# Altium footprint library LCD.PcbLib: 6 footprints
Each footprint in its own frame and in the unit in brackets; x right, y up, seen from the top. Pads: shape width x height; smd on the part's side, far side on the other; paste and mask are expansions set on the pad; w line width, h text height; cw(c..) or ccw(c..) is an arc to the next point about the centre after c.
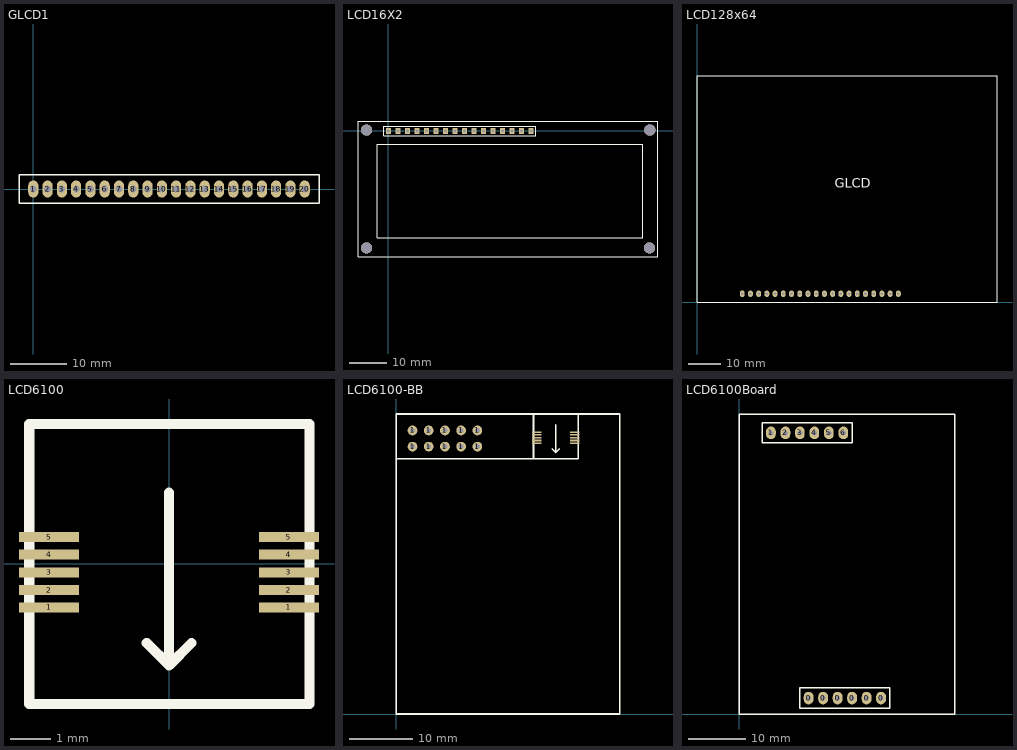
[diagram p0: the footprints below, top view; thin cyan lines are the x and y axes]

## GLCD1 [mm]
pads (20):
  oval 1.8x3 hole 1.2: 1(0,0) 2(2.54,0) 3(5.08,0) 4(7.62,0) 5(10.16,0) 6(12.7,0) 7(15.24,0) 8(17.78,0) 9(20.32,0) 10(22.86,0) 11(25.4,0) 12(27.94,0) 13(30.48,0) 14(33.02,0) 15(35.56,0) 16(38.1,0) 17(40.64,0) 18(43.18,0) 19(45.72,0) 20(48.26,0)
Top Overlay:
  lines w0.254: -2.54,-2.54 -2.54,2.54 50.8,2.54 50.8,-2.54 -2.54,-2.54

## LCD16X2 [mm] "LCD 16x2"
pads (20):
  rect 1.3x1.6 hole 0.9: 1(0,0) 2(2.54,0) 3(5.08,0) 4(7.62,0) 5(10.16,0) 6(12.7,0) 7(15.24,0) 8(17.78,0) 9(20.32,0) 10(22.86,0) 11(25.4,0) 12(27.94,0) 13(30.48,0) 14(33.02,0) 15(35.56,0) 16(38.1,0)
  round 3 hole 3: ""(-5.842,-31.242) ""(69.723,-31.242)
  round 3 hole 3 paste+0 mask+0: ""(-5.842,0.254) ""(69.825,0.254)
Top Overlay:
  lines w0.2: -1.27,-1.27 -1.27,1.27 0.635,1.27 39.37,1.27 39.37,-1.27 -1.27,-1.27
  lines w0.254: 71.882,-33.528 -8.128,-33.528 -8.128,2.54 71.882,2.54 ; 72.009,-33.528 72.009,2.54 ; -3.001,-28.528 67.999,-28.528 67.999,-3.528 -3.001,-3.528 -3.001,-28.528
3D body: height 19, standoff 5.1, extent -8,-33.5 72,2.5
3D body: height 7, standoff -1, extent 37.694,-0.406 38.49,0.392
3D body: height 1.5, standoff 0, extent 36.83,-1.27 39.37,1.27
3D body: height 7, standoff -1, extent 24.994,-0.406 25.79,0.392
3D body: height 1.5, standoff 0, extent 24.13,-1.27 26.67,1.27
3D body: height 7, standoff -1, extent 27.534,-0.406 28.33,0.392
3D body: height 1.5, standoff 0, extent 26.67,-1.27 29.21,1.27
3D body: height 7, standoff -1, extent 30.074,-0.406 30.87,0.392
3D body: height 1.5, standoff 0, extent 29.21,-1.27 31.75,1.27
3D body: height 7, standoff -1, extent 32.614,-0.406 33.41,0.392
3D body: height 1.5, standoff 0, extent 31.75,-1.27 34.29,1.27
3D body: height 7, standoff -1, extent 35.154,-0.406 35.95,0.392
3D body: height 1.5, standoff 0, extent 34.29,-1.27 36.83,1.27
3D body: height 7, standoff -1, extent 12.294,-0.406 13.09,0.392
3D body: height 1.5, standoff 0, extent 11.43,-1.27 13.97,1.27
3D body: height 7, standoff -1, extent 14.834,-0.406 15.63,0.392
3D body: height 1.5, standoff 0, extent 13.97,-1.27 16.51,1.27
3D body: height 7, standoff -1, extent 17.374,-0.406 18.17,0.392
3D body: height 1.5, standoff 0, extent 16.51,-1.27 19.05,1.27
3D body: height 7, standoff -1, extent 19.914,-0.406 20.71,0.392
3D body: height 1.5, standoff 0, extent 19.05,-1.27 21.59,1.27
3D body: height 7, standoff -1, extent 22.454,-0.406 23.25,0.392
3D body: height 1.5, standoff 0, extent 21.59,-1.27 24.13,1.27
3D body: height 7, standoff -1, extent -0.406,-0.406 0.39,0.392
3D body: height 1.5, standoff 0, extent -1.27,-1.27 1.27,1.27
3D body: height 7, standoff -1, extent 2.134,-0.406 2.93,0.392
3D body: height 1.5, standoff 0, extent 1.27,-1.27 3.81,1.27
3D body: height 7, standoff -1, extent 4.674,-0.406 5.47,0.392
3D body: height 1.5, standoff 0, extent 3.81,-1.27 6.35,1.27
3D body: height 7, standoff -1, extent 7.214,-0.406 8.01,0.392
3D body: height 1.5, standoff 0, extent 6.35,-1.27 8.89,1.27
3D body: height 7, standoff -1, extent 9.754,-0.406 10.55,0.392
3D body: height 1.5, standoff 0, extent 8.89,-1.27 11.43,1.27

## LCD128x64 [mm]
pads (20):
  oval 1.5x2 hole 0.8: 1(62.23,2.54) 2(59.69,2.54) 3(57.15,2.54) 4(54.61,2.54) 5(52.07,2.54) 6(49.53,2.54) 7(46.99,2.54) 8(44.45,2.54) 9(41.91,2.54) 10(39.37,2.54) 11(36.83,2.54) 12(34.29,2.54) 13(31.75,2.54) 14(29.21,2.54) 15(26.67,2.54) 16(24.13,2.54) 17(21.59,2.54) 18(19.05,2.54) 19(16.51,2.54) 20(13.97,2.54)
Top Overlay:
  lines w0.15: 0,0 92.71,0 92.71,69.85 0,69.85 0,0
  text "GLCD" at 42.545,34.163 h5
3D body: height 15.4, standoff 0, extent -2.27,1.04 77.73,55.04

## LCD6100 [mm]
pads (10):
  rect 1.5x0.25 smd: 1(-3,-1.091) 1(2.994,-1.091) 2(-3,-0.66) 2(2.994,-0.66) 3(-3,-0.215) 3(2.994,-0.215) 4(-3,0.229) 4(2.994,0.229) 5(-3,0.661) 5(2.994,0.661)
Top Overlay:
  lines w0.254: -0.559,-1.981 0,-2.54 ; 0,1.778 0,-2.54 ; 0.559,-1.981 0,-2.54 ; -3.493,-3.507 3.507,-3.507 3.507,3.493 -3.493,3.493 -3.493,-3.507

## LCD6100-BB [mil]
pads (20):
  round 60 hole 30: 1(100,1649) 1(100,1749) 1(200,1649) 1(200,1749) 1(300,1649) 1(300,1749) 1(400,1649) 1(400,1749) 1(500,1649) 1(500,1749)
  rect 59.06x9.84 smd: 1(865.83,1669.92) 1(1101.83,1669.92) 2(865.83,1686.92) 2(1101.83,1686.92) 3(865.83,1704.42) 3(1101.83,1704.42) 4(865.83,1721.92) 4(1101.83,1721.92) 5(865.83,1738.92) 5(1101.83,1738.92)
Top Overlay:
  lines w10: 0,0 1377.95,0 1377.95,1849.39 ; 0,1 0,1850.39 1377.95,1850.39 ; 0,1574.8 1122.05,1574.8 ; 961.96,1634.89 983.96,1612.89 ; 983.96,1782.89 983.96,1612.89 ; 1005.96,1634.89 983.96,1612.89 ; 1122.05,1574.8 1122.05,1850.39 846.46,1850.39 846.46,1574.8 1122.05,1574.8

## LCD6100Board [mm] "LCD Nokia 6100 Board"
pads (12):
  oval 1.7x2.2 hole 0.9: 0(12.192,2.794) 0(14.732,2.794) 0(17.272,2.794) 0(19.812,2.794) 0(22.352,2.794) 0(24.892,2.794) 1(5.588,49.276) 2(8.128,49.276) 3(10.668,49.276) 4(13.208,49.276) 5(15.748,49.276) 6(18.288,49.276)
Top Overlay:
  lines w0.254: 0,0 0,52.578 37.846,52.578 37.846,0 0,0 ; 4.039,47.498 19.812,47.498 19.812,51.054 4.039,51.054 4.039,47.498 ; 10.643,1.016 10.643,4.572 26.416,4.572 26.416,1.016 10.643,1.016